# Altium schematic symbol library MMC5603NJ.SchLib: 1 symbol
Pins are listed as number, name and electrical type; pins without a type are passive.

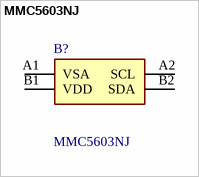
[diagram p0: symbol MMC5603NJ]

## MMC5603NJ
designator B?
Magnetic Sensors SMD RoHS; Manufacturer_Name: MEMSIC; Geometry.Height: 0.6mm; Mouser Part Number: 438-MMC5603NJ; Mouser Price/Stock: https://www.mouser.co.uk/ProductDetail/MEMSIC/MMC5603NJ?qs=B6kkDfuK7%2FDOubZFFHvcXw%3D%3D; Manufacturer_Part_Number: MMC5603NJ; Datasheet Link: https://www.mouser.de/datasheet/2/821/Memsic_09102019_MMC5603NJ_Datasheet_Rev.B-1635324.pdf
footprint MMC5603NJ
pins: A1 VSA, A2 SCL, B1 VDD, B2 SDA